# EAGLE library part 7SEG_LED_A-3001SR (library ARC_Clock)
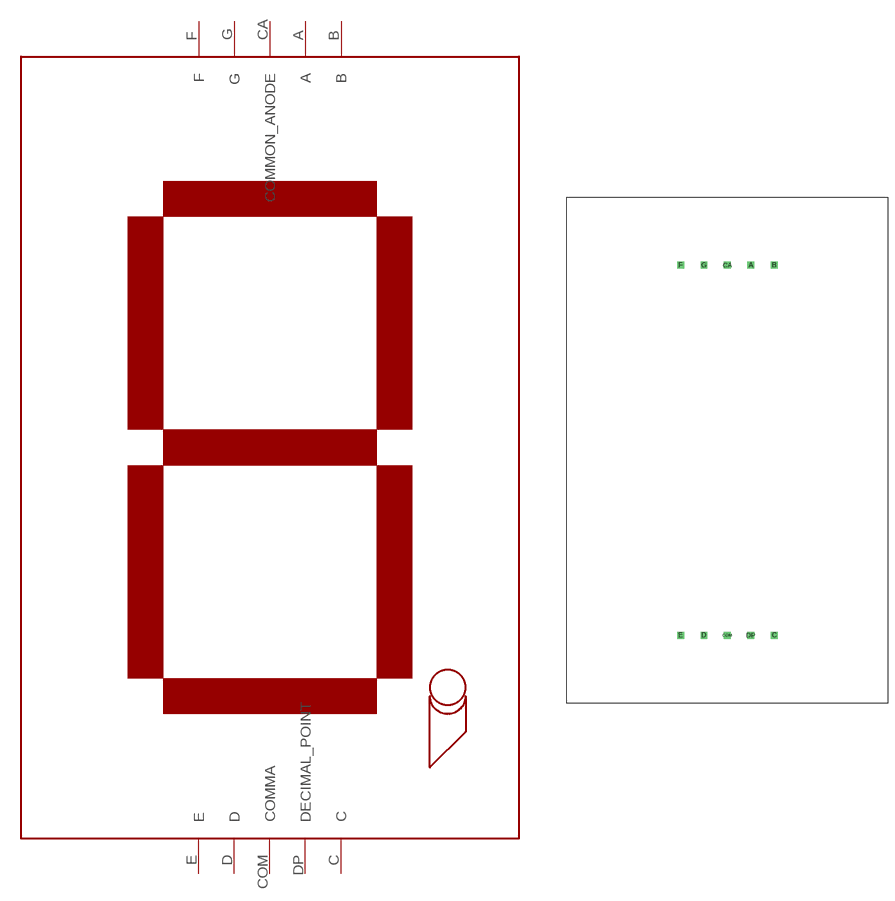
[diagram p1: symbol with the pads of 7SEG_LED; footprint 7SEG_LED]

Designator prefix -

## 7SEG_LED_A-3001SR  [7SEG_LED]
A  A
B  B
C  C
CA  COMMON_ANODE
COM  COMMA
D  D
DP  DECIMAL_POINT
E  E
F  F
G  G

## Footprint 7SEG_LED (pad centres in mm)
drill 1 square: A 5.08,40.132; B 10.16,40.132; C 10.16,-40.132; CA 0,40.132; COM 0,-40.132; D -5.08,-40.132; DP 5.08,-40.132; E -10.16,-40.132; F -10.16,40.132; G -5.08,40.132